# Altium footprint library IMTP Разное.PcbLib: 39 footprints (part 2 of 3)
Each footprint in its own frame and in the unit in brackets; x right, y up, seen from the top. Pads: shape width x height; smd on the part's side, far side on the other; paste and mask are expansions set on the pad; w line width, h text height; cw(c..) or ccw(c..) is an arc to the next point about the centre after c.
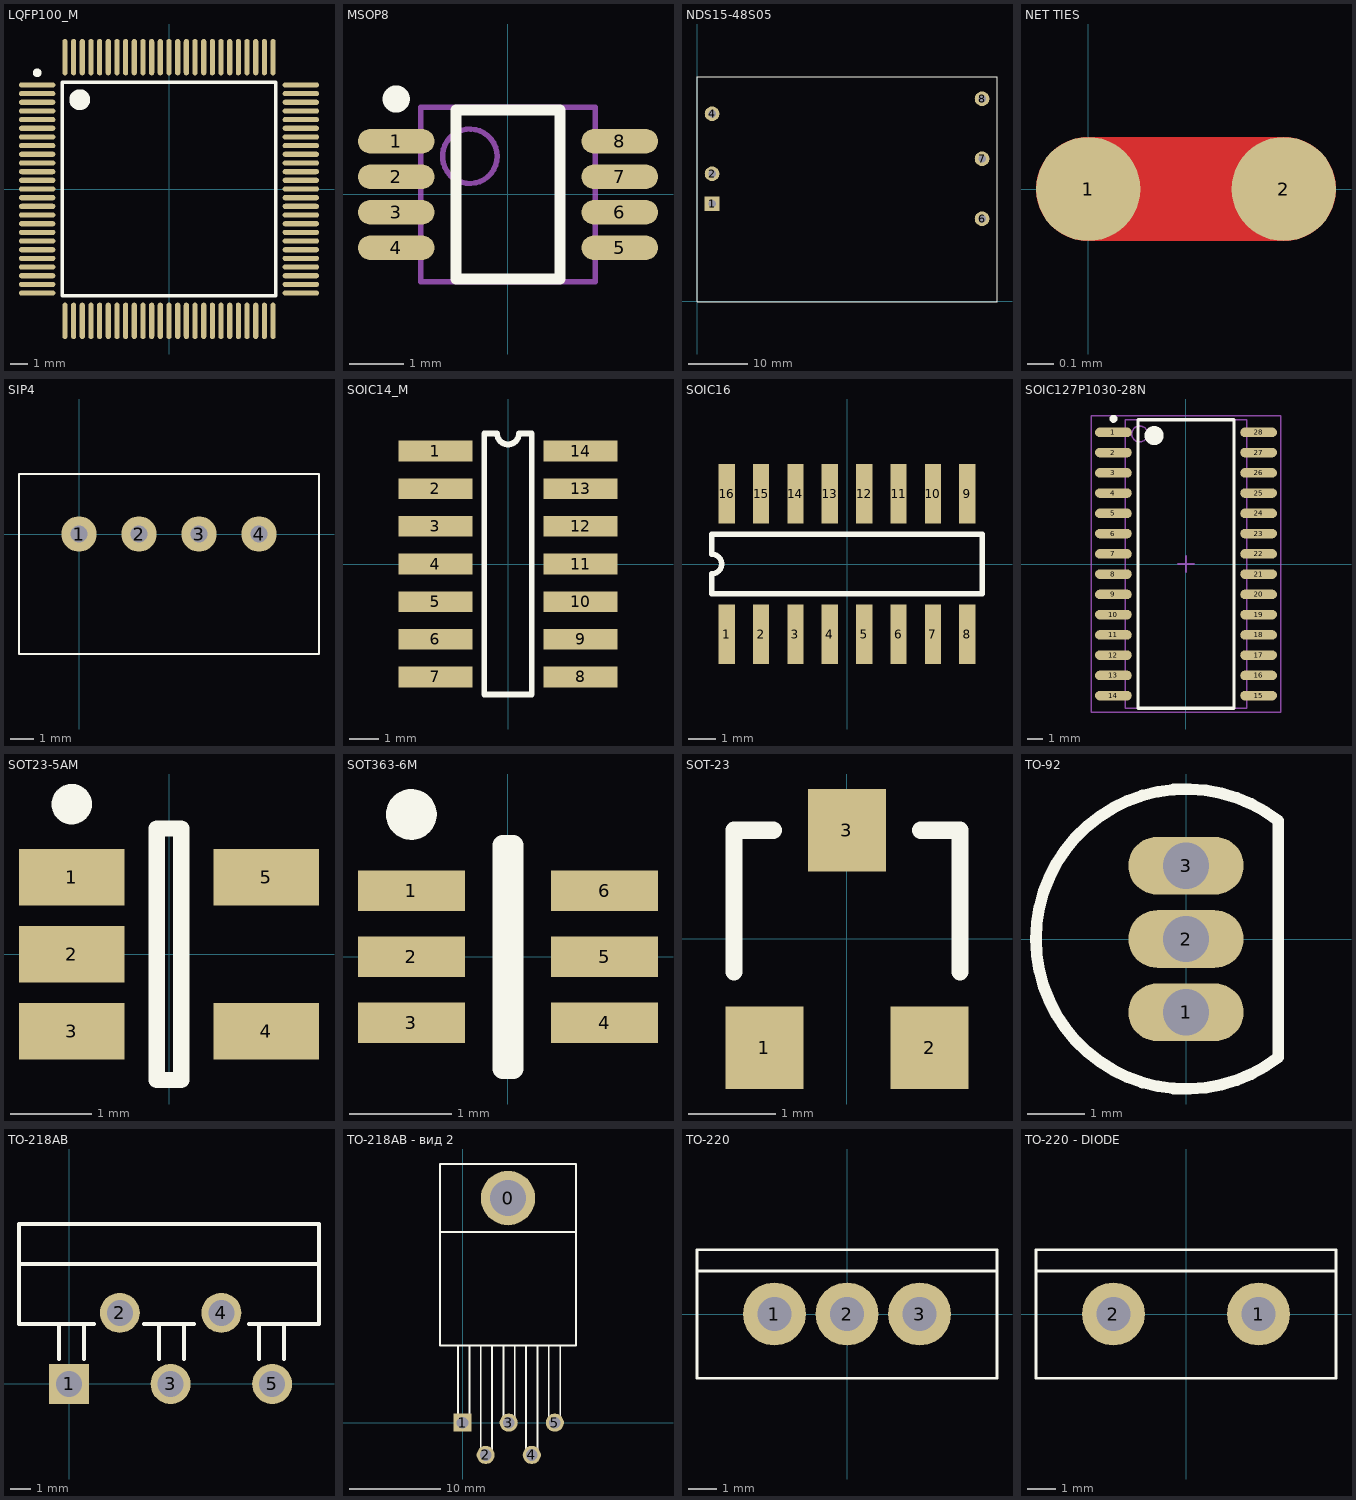
[diagram p1: the footprints below, top view; thin cyan lines are the x and y axes]

## LQFP100_M [mm] "Thin QFP, 100-Leads, Body 14x14mm, Pitch 0.5mm, IPC Low Density"
height 1.6
pads (100):
  oval 2.1x0.3 smd: 1(-7.6,6) 2(-7.6,5.5) 3(-7.6,5) 4(-7.6,4.5) 5(-7.6,4) 6(-7.6,3.5) 7(-7.6,3) 8(-7.6,2.5) 9(-7.6,2) 10(-7.6,1.5) 11(-7.6,1) 12(-7.6,0.5) 13(-7.6,0) 14(-7.6,-0.5) 15(-7.6,-1) 16(-7.6,-1.5) 17(-7.6,-2) 18(-7.6,-2.5) 19(-7.6,-3) 20(-7.6,-3.5) 21(-7.6,-4) 22(-7.6,-4.5) 23(-7.6,-5) 24(-7.6,-5.5) 25(-7.6,-6) 51(7.6,-6) 52(7.6,-5.5) 53(7.6,-5) 54(7.6,-4.5) 55(7.6,-4) 56(7.6,-3.5) 57(7.6,-3) 58(7.6,-2.5) 59(7.6,-2) 60(7.6,-1.5) 61(7.6,-1) 62(7.6,-0.5) 63(7.6,0) 64(7.6,0.5) 65(7.6,1) 66(7.6,1.5) 67(7.6,2) 68(7.6,2.5) 69(7.6,3) 70(7.6,3.5) 71(7.6,4) 72(7.6,4.5) 73(7.6,5) 74(7.6,5.5) 75(7.6,6)
  oval 0.3x2.1 smd: 26(-6,-7.6) 27(-5.5,-7.6) 28(-5,-7.6) 29(-4.5,-7.6) 30(-4,-7.6) 31(-3.5,-7.6) 32(-3,-7.6) 33(-2.5,-7.6) 34(-2,-7.6) 35(-1.5,-7.6) 36(-1,-7.6) 37(-0.5,-7.6) 38(0,-7.6) 39(0.5,-7.6) 40(1,-7.6) 41(1.5,-7.6) 42(2,-7.6) 43(2.5,-7.6) 44(3,-7.6) 45(3.5,-7.6) 46(4,-7.6) 47(4.5,-7.6) 48(5,-7.6) 49(5.5,-7.6) 50(6,-7.6) 76(6,7.6) 77(5.5,7.6) 78(5,7.6) 79(4.5,7.6) 80(4,7.6) 81(3.5,7.6) 82(3,7.6) 83(2.5,7.6) 84(2,7.6) 85(1.5,7.6) 86(1,7.6) 87(0.5,7.6) 88(0,7.6) 89(-0.5,7.6) 90(-1,7.6) 91(-1.5,7.6) 92(-2,7.6) 93(-2.5,7.6) 94(-3,7.6) 95(-3.5,7.6) 96(-4,7.6) 97(-4.5,7.6) 98(-5,7.6) 99(-5.5,7.6) 100(-6,7.6)
Top Overlay:
  circle w0.25: c-7.6,6.7 r0.125
  circle w0.6: c-5.15,5.15 r0.3
  lines w0.2: -6.15,-6.15 -6.15,6.15 6.15,6.15 6.15,-6.15 -6.15,-6.15
3D body: height 1.6, standoff 0, extent -7,-7 7,7

## MSOP8 [mm] "TSOP, 8-Leads, Body 3x3mm, Pitch 0.65mm, IPC High Density"
height 1.1
pads (8):
  oval 1.4x0.45 smd: 1(-2.05,0.975) 2(-2.05,0.325) 3(-2.05,-0.325) 4(-2.05,-0.975) 5(2.05,-0.975) 6(2.05,-0.325) 7(2.05,0.325) 8(2.05,0.975)
Top Overlay:
  circle w0.25: c-2.05,1.75 r0.125
  lines w0.2: -0.95,-1.55 0.95,-1.55 0.95,1.55 -0.95,1.55 -0.95,-1.55
Mechanical 13:
  circle w0.1: c-0.7,0.7 r0.5
  lines w0.1: -1.6,-1.6 1.6,-1.6 1.6,1.6 -1.6,1.6 -1.6,-1.6
3D body: height 1.09, standoff -0.01, extent -2.5,-1.5 2.5,1.5

## NDS15-48S05 [mm]
height 10.2
pads (6):
  rect 2.5x2.5 hole 1.3: 1(2.54,16.51)
  round 2.5 hole 1.3: 2(2.54,21.59) 4(2.54,31.75) 6(48.26,13.97) 7(48.26,24.13) 8(48.26,34.29)
Top Overlay:
  lines w0.1: -0.015,-0.034 -0.015,38.066 50.785,38.066 50.785,-0.034 -0.015,-0.034
3D body: height -0.2, standoff -4, extent 47.772,33.791 48.768,34.789
3D body: height -0.2, standoff -4, extent 47.772,23.631 48.768,24.629
3D body: height -0.2, standoff -4, extent 47.772,13.471 48.768,14.469
3D body: height -0.2, standoff -4, extent 2.042,31.242 3.038,32.24
3D body: height -0.2, standoff -4, extent 2.052,21.091 3.048,22.089
3D body: height 10, standoff 0.1, extent -0.015,-0.034 50.785,38.066
3D body: height -0.2, standoff -4, extent 2.042,16.002 3.038,17

## NET TIES [mm]
pads (2):
  round 0.4 smd: 1(0,0) 2(0.75,0)
Top Layer:
  lines w0.4: 0,0 0.75,0

## SIP4 [mm]
pads (4):
  round 1.5 hole 0.7: 1(0,0) 2(2.54,0) 3(5.08,0) 4(7.62,0)
Top Overlay:
  lines w0.1: -2.54,-5.08 -2.54,2.54 10.16,2.54 10.16,-5.08 -2.54,-5.08
3D body: height 11.2, standoff 0.1, extent -2.54,-5.08 10.16,2.54
3D body: height 0, standoff -4, extent 2.286,-0.254 2.784,0.245
3D body: height 0, standoff -4, extent 4.826,-0.254 5.324,0.245
3D body: height 0, standoff -4, extent 7.366,-0.25 7.864,0.25
3D body: height 0, standoff -4, extent -0.254,-0.254 0.244,0.245

## SOIC14_M [mm] "14-Pin Small Outline Integrated Circuit 1.27 mm Pitch, IPC Low Density"
height 1.75
pads (14):
  rect 2.5x0.7 smd: 1(-2.45,3.81) 2(-2.45,2.54) 3(-2.45,1.27) 4(-2.45,0) 5(-2.45,-1.27) 6(-2.45,-2.54) 7(-2.45,-3.81) 8(2.45,-3.81) 9(2.45,-2.54) 10(2.45,-1.27) 11(2.45,0) 12(2.45,1.27) 13(2.45,2.54) 14(2.45,3.81)
Top Overlay:
  lines w0.2: -0.4,4.4 -0.8,4.4 -0.8,-4.4 0.8,-4.4 0.8,4.4 0.4,4.4 ; -0.367,4.4 ccw(c0,4.4) 0.367,4.4
3D body: height 1.7, standoff 0.1, extent -2.99,-4.345 3,4.345

## SOIC16 [mm] "Small Outline; 16 Leads; Body Width 3.9 mm; Pitch 1.27 mm"
height 1.75
pads (16):
  rect 0.6x2.2 smd: 1(-4.445,-2.6) 2(-3.175,-2.6) 3(-1.905,-2.6) 4(-0.635,-2.6) 5(0.635,-2.6) 6(1.905,-2.6) 7(3.175,-2.6) 8(4.445,-2.6) 9(4.445,2.6) 10(3.175,2.6) 11(1.905,2.6) 12(0.635,2.6) 13(-0.635,2.6) 14(-1.905,2.6) 15(-3.175,2.6) 16(-4.445,2.6)
Top Overlay:
  lines w0.2: -5,-1.1 -5,-0.367 ccw(c-5,0) -5,0.367 -5,1.1 5,1.1 5,-1.1 -5,-1.1
3D body: height 1.45, standoff 0, extent -4.991,-2.905 4.991,3

## SOIC127P1030-28N [mm] "SOIC, 28-Leads, Body 17.9x7.5mm, Pitch 1.27mm, IPC Medium Density"
height 2.65
pads (28):
  oval 2.3x0.6 smd: 1(-4.55,8.255) 2(-4.55,6.985) 3(-4.55,5.715) 4(-4.55,4.445) 5(-4.55,3.175) 6(-4.55,1.905) 7(-4.55,0.635) 8(-4.55,-0.635) 9(-4.55,-1.905) 10(-4.55,-3.175) 11(-4.55,-4.445) 12(-4.55,-5.715) 13(-4.55,-6.985) 14(-4.55,-8.255) 15(4.55,-8.255) 16(4.55,-6.985) 17(4.55,-5.715) 18(4.55,-4.445) 19(4.55,-3.175) 20(4.55,-1.905) 21(4.55,-0.635) 22(4.55,0.635) 23(4.55,1.905) 24(4.55,3.175) 25(4.55,4.445) 26(4.55,5.715) 27(4.55,6.985) 28(4.55,8.255)
Top Overlay:
  circle w0.6: c-2,8.05 r0.3
  circle w0.25: c-4.55,9.105 r0.125
  lines w0.2: -3,-9.05 3,-9.05 3,9.05 -3,9.05 -3,-9.05
Mechanical 13:
  circle w0.1: c-2.9,8.155 r0.5
  lines w0.1: -3.8,-9.055 3.8,-9.055 3.8,9.055 -3.8,9.055 -3.8,-9.055
Mechanical 15:
  lines w0.1: -0.5,0 0.5,0 ; 0,-0.5 0,0.5 ; -5.95,-9.3 5.95,-9.3 5.95,9.3 -5.95,9.3 -5.95,-9.3
3D body: height 2.65, standoff 0, extent -3.8,-9.055 3.8,9.055

## SOT23-5AM [mm] "SOT23, 5-Leads, Body 2.9x1.7mm, Pitch 0.95mm, Lead Span 2.8mm, IPC Low Density"
height 1.45
pads (5):
  rect 1.3x0.7 smd: 1(-1.2,0.95) 2(-1.2,0) 3(-1.2,-0.95) 4(1.2,-0.95) 5(1.2,0.95)
Top Overlay:
  circle w0.25: c-1.2,1.85 r0.125
  lines w0.2: -0.15,-1.55 -0.15,1.55 0.15,1.55 0.15,-1.55 -0.15,-1.55
3D body: height 0.94, standoff -0.02, extent -1.591,-1.45 1.6,1.45

## SOT363-6M [mm]
pads (6):
  rect 1.05x0.4 smd: 1(-0.95,0.65) 2(-0.95,0) 3(-0.95,-0.65) 4(0.95,-0.65) 5(0.95,0) 6(0.95,0.65)
Top Overlay:
  circle w0.25: c-0.95,1.4 r0.125
  lines w0.2: -0.05,-1.1 0.05,-1.1 0.05,1.1 -0.05,1.1 -0.05,-1.1
3D body: height 1.1, standoff 0, extent -0.7,-1.1 0.7,1.1

## SOT-23 [mm] "SOT-23; 3 Leads; Body 3.0 x 2.6 mm, inc. leads (LxW max)"
height 1.1
pads (3):
  rect 0.9x0.95 smd: 1(-0.95,-1.25) 2(0.95,-1.25) 3(0,1.25)
Top Overlay:
  lines w0.2: -1.3,-0.375 -1.3,1.25 -0.85,1.25 ; 0.85,1.25 1.3,1.25 1.3,-0.375
3D body: height 0.55, standoff -0.55, extent -1.5,-1.25 1.5,1.25

## TO-92 [mm] "TO, Flat Index; 3 In-Line, Axial Leads; Body Dia. 5.1mm; Leads 0.48 x 0.48 mm (max)"
height 5.33
pads (3):
  oval 2x1 hole 0.8: 1(0,-1.27) 2(0,0) 3(0,1.27)
Top Overlay:
  lines w0.2: 1.601,-2.049 cw(c0,0) 1.601,2.049 ; 1.6,-1.99 1.6,1.99
3D body: height 10.31, standoff -5.8, extent -3.048,-3.152 1.762,3.048

## TO-218AB [mm]
pads (5):
  rect 2x2 hole 1.3: 1(0,0)
  round 2 hole 1.3: 2(2.54,3.556)
  round 2 hole 1.3 mask+0.102: 3(5.08,0) 4(7.62,3.556) 5(10.16,0)
Top Overlay:
  lines w0.2: -2.5,6 12.5,6 ; -0.5,1.25 -0.5,3 ; 0.75,1.25 0.75,3 ; 1.25,3 -2.5,3 -2.5,8 12.5,8 12.5,3 9,3 ; 3.75,3 6.25,3 ; 4.5,1.25 4.5,3 ; 5.75,1.25 5.75,3 ; 9.5,1.25 9.5,3 ; 10.75,1.25 10.75,3
3D body: height 31.32, standoff -2.98, extent -2.5,3.1 12.5,8

## TO-218AB - вид 2 [mm]
pads (6):
  round 6 hole 4 mask+0.102: 0(5,24.75)
  rect 2x2 hole 1.3: 1(0,0)
  round 2 hole 1.3: 2(2.54,-3.556)
  round 2 hole 1.3 mask+0.102: 3(5.08,0) 4(7.62,-3.556) 5(10.16,0)
Top Overlay:
  lines w0.2: -2.5,21 12.5,21 ; -0.5,0 -0.5,8.5 ; 0.75,0 0.75,8.5 ; 2,-3.5 2,8.5 ; 3.25,-3.5 3.25,8.5 ; 4.5,0 4.5,8.5 ; 5.75,0 5.75,8.5 ; 7,-3.5 7,8.5 ; 8.25,-3.5 8.25,8.5 ; 9.5,0 9.5,8.5 ; 10.75,0 10.75,8.5 ; -2.5,8.5 12.5,8.5 12.5,28.5 -2.5,28.5 -2.5,8.5
3D body: height -0.5, standoff -5.4, extent -2.5,-5.65 12.5,28.65

## TO-220 [mm]
pads (3):
  round 2.2 hole 1.2: 1(-2.54,0) 2(0,0) 3(2.54,0)
Top Overlay:
  lines w0.1: -5.25,1.5 5.25,1.5 ; -5.25,-2.25 5.25,-2.25 5.25,2.25 -5.25,2.25 -5.25,-2.25
3D body: height 18.5, standoff -9.88, extent -4.826,-2.286 4.826,2.214

## TO-220 - DIODE [mm]
pads (2):
  round 2.2 hole 1.2: 1(2.54,0) 2(-2.54,0)
Top Overlay:
  lines w0.1: -5.25,1.5 5.25,1.5 ; -5.25,-2.25 5.25,-2.25 5.25,2.25 -5.25,2.25 -5.25,-2.25
3D body: height 18.5, standoff -9.88, extent -4.826,-2.286 4.826,2.214